# EAGLE library part STM32F413ZG (library Hexabitz)
ARM Microcontrollers - MCU High-performance access line, ARM Cortex-M4 core with DSP and FPU, 1 MByte Flash, 100 MHz CPU, ART Accelerator, DFSDM
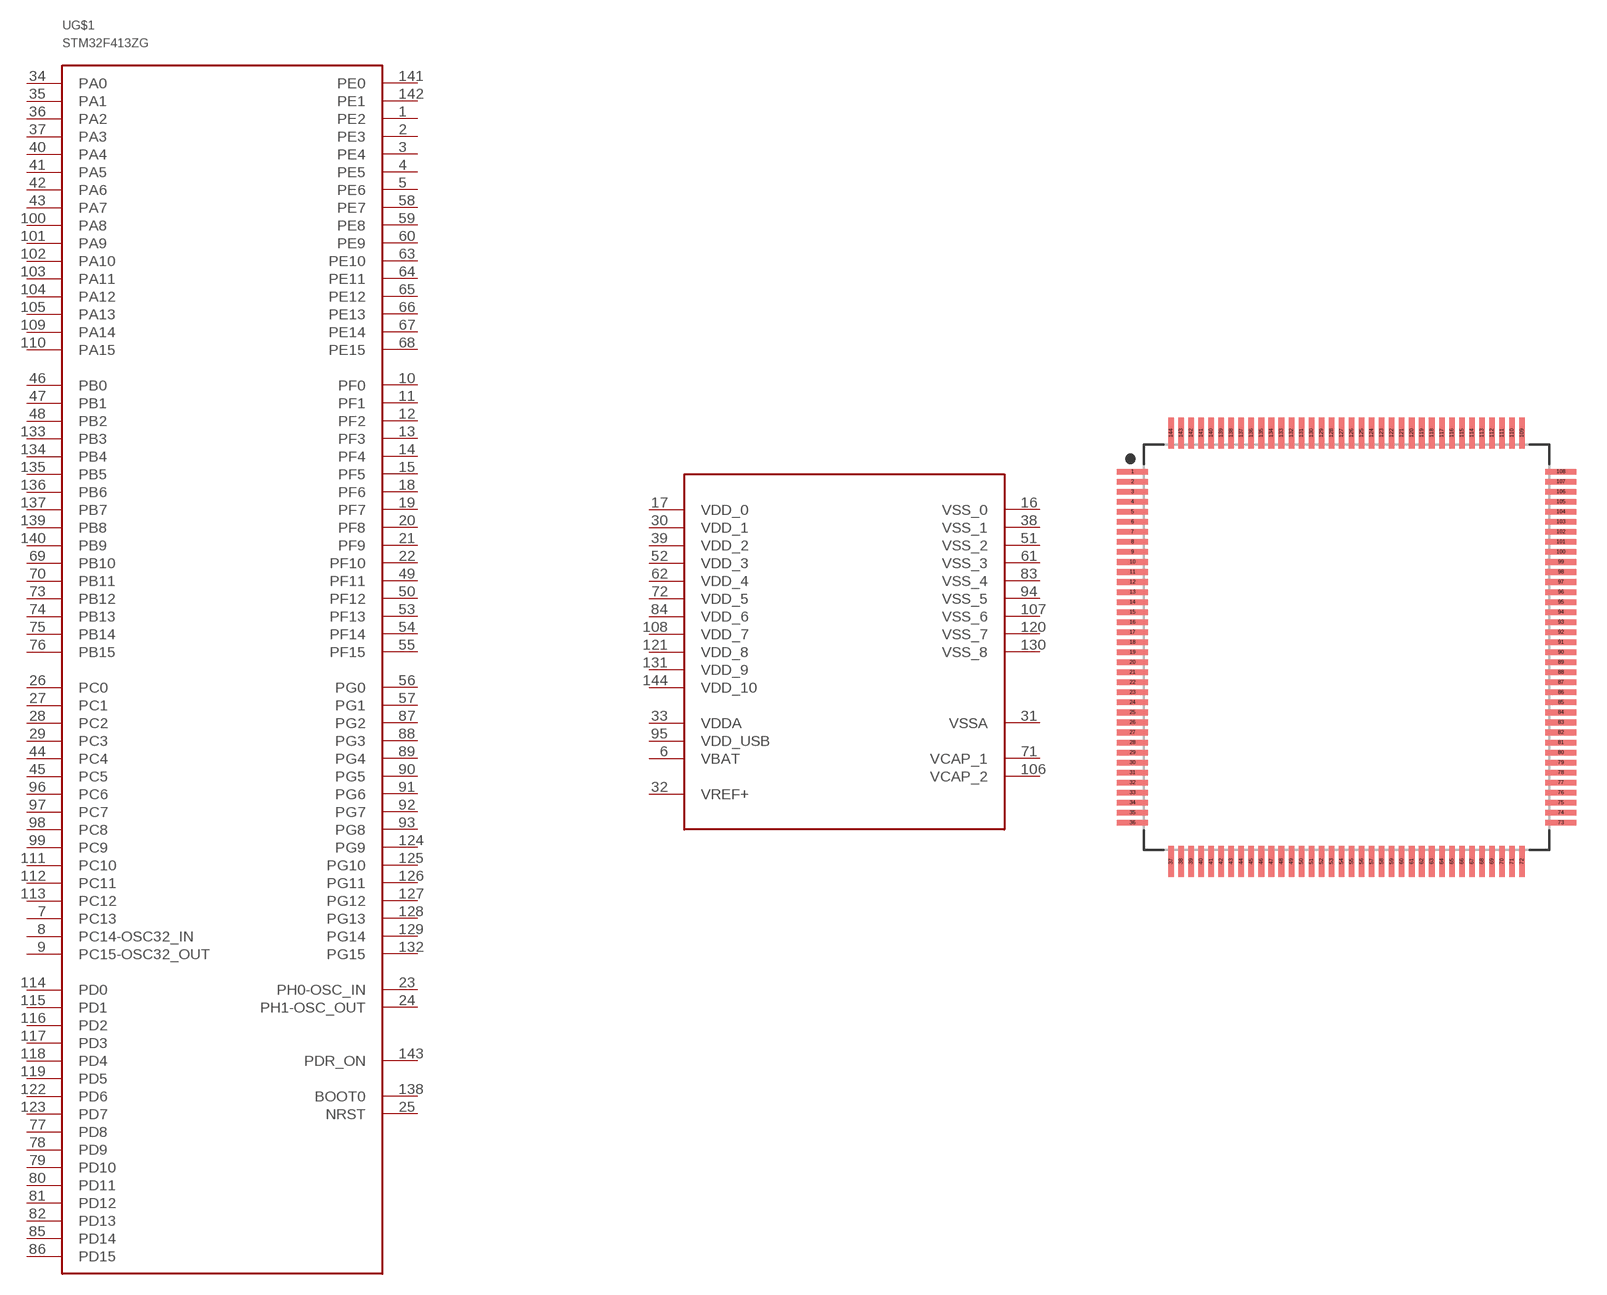
[diagram p6: symbol with the pads of QFP50P2200X2200X160-144; footprint QFP50P2200X2200X160-144]

Designator prefix U; gates G$1=STM32F413ZG G$2=STM32F413ZG_PWR

## STM32F413ZGT6 (MFN: STMicroelectronics; MPN: STM32F413ZGT6; OCTOPART_URL: https://octopart.com/stm32f413zgt6-stmicroelectronics-76512532?r=sp&s=261GUQBYSX2lcZAQRXP-mQ)  [QFP50P2200X2200X160-144]
1  G$1:PE2
2  G$1:PE3
3  G$1:PE4
4  G$1:PE5
5  G$1:PE6
6  G$2:VBAT  pwr
7  G$1:PC13
8  G$1:PC14-OSC32_IN
9  G$1:PC15-OSC32_OUT
10  G$1:PF0
11  G$1:PF1
12  G$1:PF2
13  G$1:PF3
14  G$1:PF4
15  G$1:PF5
16  G$2:VSS_0  pwr
17  G$2:VDD_0  pwr
18  G$1:PF6
19  G$1:PF7
20  G$1:PF8
21  G$1:PF9
22  G$1:PF10
23  G$1:PH0-OSC_IN
24  G$1:PH1-OSC_OUT
25  G$1:NRST  pas
26  G$1:PC0
27  G$1:PC1
28  G$1:PC2
29  G$1:PC3
30  G$2:VDD_1  pwr
31  G$2:VSSA  pwr
32  G$2:VREF+  pwr
33  G$2:VDDA  pwr
34  G$1:PA0
35  G$1:PA1
36  G$1:PA2
37  G$1:PA3
38  G$2:VSS_1  pwr
39  G$2:VDD_2  pwr
40  G$1:PA4
41  G$1:PA5
42  G$1:PA6
43  G$1:PA7
44  G$1:PC4
45  G$1:PC5
46  G$1:PB0
47  G$1:PB1
48  G$1:PB2
49  G$1:PF11
50  G$1:PF12
51  G$2:VSS_2  pwr
52  G$2:VDD_3  pwr
53  G$1:PF13
54  G$1:PF14
55  G$1:PF15
56  G$1:PG0
57  G$1:PG1
58  G$1:PE7
59  G$1:PE8
60  G$1:PE9
61  G$2:VSS_3  pwr
62  G$2:VDD_4  pwr
63  G$1:PE10
64  G$1:PE11
65  G$1:PE12
66  G$1:PE13
67  G$1:PE14
68  G$1:PE15
69  G$1:PB10
70  G$1:PB11
71  G$2:VCAP_1  pwr
72  G$2:VDD_5  pwr
73  G$1:PB12
74  G$1:PB13
75  G$1:PB14
76  G$1:PB15
77  G$1:PD8
78  G$1:PD9
79  G$1:PD10
80  G$1:PD11
81  G$1:PD12
82  G$1:PD13
83  G$2:VSS_4  pwr
84  G$2:VDD_6  pwr
85  G$1:PD14
86  G$1:PD15
87  G$1:PG2
88  G$1:PG3
89  G$1:PG4
90  G$1:PG5
91  G$1:PG6
92  G$1:PG7
93  G$1:PG8
94  G$2:VSS_5  pwr
95  G$2:VDD_USB  pwr
96  G$1:PC6
97  G$1:PC7
98  G$1:PC8
99  G$1:PC9
100  G$1:PA8
101  G$1:PA9
102  G$1:PA10
103  G$1:PA11
104  G$1:PA12
105  G$1:PA13
106  G$2:VCAP_2  pwr
107  G$2:VSS_6  pwr
108  G$2:VDD_7  pwr
109  G$1:PA14
110  G$1:PA15
111  G$1:PC10
112  G$1:PC11
113  G$1:PC12
114  G$1:PD0
115  G$1:PD1
116  G$1:PD2
117  G$1:PD3
118  G$1:PD4
119  G$1:PD5
120  G$2:VSS_7  pwr
121  G$2:VDD_8  pwr
122  G$1:PD6
123  G$1:PD7
124  G$1:PG9
125  G$1:PG10
126  G$1:PG11
127  G$1:PG12
128  G$1:PG13
129  G$1:PG14
130  G$2:VSS_8  pwr
131  G$2:VDD_9  pwr
132  G$1:PG15
133  G$1:PB3
134  G$1:PB4
135  G$1:PB5
136  G$1:PB6
137  G$1:PB7
138  G$1:BOOT0  in
139  G$1:PB8
140  G$1:PB9
141  G$1:PE0
142  G$1:PE1
143  G$1:PDR_ON  in
144  G$2:VDD_10  pwr

## Footprint QFP50P2200X2200X160-144 (pad centres in mm)
144-QFP, 0.50 mm pitch, 22.00 mm span, 20.00 X 20.00 X 1.60 mm body 144-pin QFP package with 0.50 mm pitch, 22.00 mm lead span1 X 22.00 mm lead span2 with body size 20.00 X 20.00 X 1.60 mm
smd 1.559 x 0.28: 1 -10.678,8.75; 2 -10.678,8.25; 3 -10.678,7.75; 4 -10.678,7.25; 5 -10.678,6.75; 6 -10.678,6.25; 7 -10.678,5.75; 8 -10.678,5.25; 9 -10.678,4.75; 10 -10.678,4.25; 11 -10.678,3.75; 12 -10.678,3.25; 13 -10.678,2.75; 14 -10.678,2.25; 15 -10.678,1.75; 16 -10.678,1.25; 17 -10.678,0.75; 18 -10.678,0.25; 19 -10.678,-0.25; 20 -10.678,-0.75; 21 -10.678,-1.25; 22 -10.678,-1.75; 23 -10.678,-2.25; 24 -10.678,-2.75; 25 -10.678,-3.25; 26 -10.678,-3.75; 27 -10.678,-4.25; 28 -10.678,-4.75; 29 -10.678,-5.25; 30 -10.678,-5.75; 31 -10.678,-6.25; 32 -10.678,-6.75; 33 -10.678,-7.25; 34 -10.678,-7.75; 35 -10.678,-8.25; 36 -10.678,-8.75; 73 10.678,-8.75; 74 10.678,-8.25; 75 10.678,-7.75; 76 10.678,-7.25; 77 10.678,-6.75; 78 10.678,-6.25; 79 10.678,-5.75; 80 10.678,-5.25; 81 10.678,-4.75; 82 10.678,-4.25; 83 10.678,-3.75; 84 10.678,-3.25; 85 10.678,-2.75; 86 10.678,-2.25; 87 10.678,-1.75; 88 10.678,-1.25; 89 10.678,-0.75; 90 10.678,-0.25; 91 10.678,0.25; 92 10.678,0.75; 93 10.678,1.25; 94 10.678,1.75; 95 10.678,2.25; 96 10.678,2.75; 97 10.678,3.25; 98 10.678,3.75; 99 10.678,4.25; 100 10.678,4.75; 101 10.678,5.25; 102 10.678,5.75; 103 10.678,6.25; 104 10.678,6.75; 105 10.678,7.25; 106 10.678,7.75; 107 10.678,8.25; 108 10.678,8.75
smd 0.28 x 1.559: 37 -8.75,-10.678; 38 -8.25,-10.678; 39 -7.75,-10.678; 40 -7.25,-10.678; 41 -6.75,-10.678; 42 -6.25,-10.678; 43 -5.75,-10.678; 44 -5.25,-10.678; 45 -4.75,-10.678; 46 -4.25,-10.678; 47 -3.75,-10.678; 48 -3.25,-10.678; 49 -2.75,-10.678; 50 -2.25,-10.678; 51 -1.75,-10.678; 52 -1.25,-10.678; 53 -0.75,-10.678; 54 -0.25,-10.678; 55 0.25,-10.678; 56 0.75,-10.678; 57 1.25,-10.678; 58 1.75,-10.678; 59 2.25,-10.678; 60 2.75,-10.678; 61 3.25,-10.678; 62 3.75,-10.678; 63 4.25,-10.678; 64 4.75,-10.678; 65 5.25,-10.678; 66 5.75,-10.678; 67 6.25,-10.678; 68 6.75,-10.678; 69 7.25,-10.678; 70 7.75,-10.678; 71 8.25,-10.678; 72 8.75,-10.678; 109 8.75,10.678; 110 8.25,10.678; 111 7.75,10.678; 112 7.25,10.678; 113 6.75,10.678; 114 6.25,10.678; 115 5.75,10.678; 116 5.25,10.678; 117 4.75,10.678; 118 4.25,10.678; 119 3.75,10.678; 120 3.25,10.678; 121 2.75,10.678; 122 2.25,10.678; 123 1.75,10.678; 124 1.25,10.678; 125 0.75,10.678; 126 0.25,10.678; 127 -0.25,10.678; 128 -0.75,10.678; 129 -1.25,10.678; 130 -1.75,10.678; 131 -2.25,10.678; 132 -2.75,10.678; 133 -3.25,10.678; 134 -3.75,10.678; 135 -4.25,10.678; 136 -4.75,10.678; 137 -5.25,10.678; 138 -5.75,10.678; 139 -6.25,10.678; 140 -6.75,10.678; 141 -7.25,10.678; 142 -7.75,10.678; 143 -8.25,10.678; 144 -8.75,10.678